# Altium footprint library B2B-XH-A.PcbLib: 1 footprints
Each footprint in its own frame and in the unit in brackets; x right, y up, seen from the top. Pads: shape width x height; smd on the part's side, far side on the other; paste and mask are expansions set on the pad; w line width, h text height; cw(c..) or ccw(c..) is an arc to the next point about the centre after c.
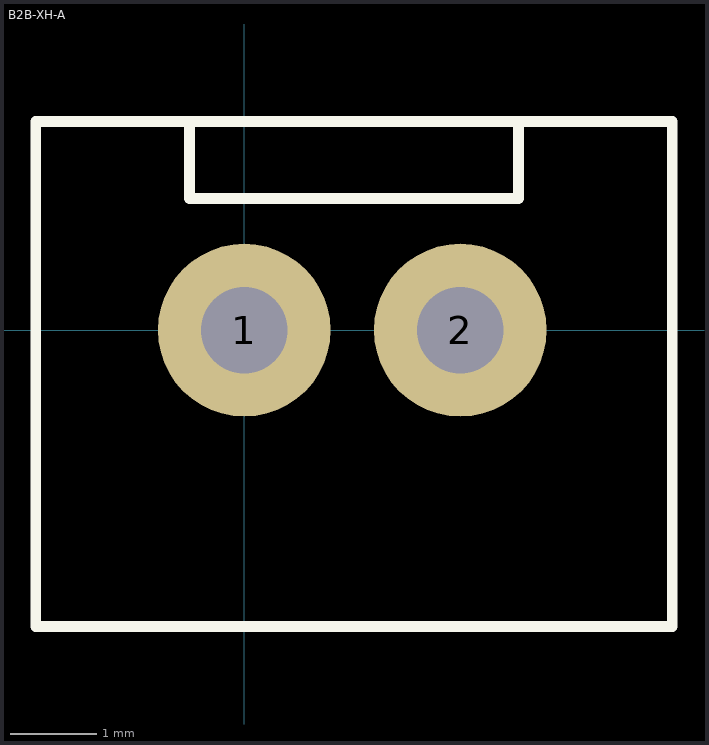
[diagram p0: the footprint, top view; thin cyan lines are the x and y axes]

## B2B-XH-A [mm] "2 pin, Top Entry Type, JST, XH-Series"
height 7
pads (2):
  round 2 hole 1: 1(0,0) 2(2.5,0)
Top Overlay:
  lines w0.125: -0.635,2.413 -0.635,1.524 3.175,1.524 3.175,2.413 ; -2.413,-3.429 -2.413,2.413 4.953,2.413 4.953,-3.429 -2.413,-3.429
3D body "B2B-XH-A.STEP": height 7, standoff -3.4, extent -2.447,-3.383 4.953,2.367